# EAGLE library part 43045-0600 (library con-Molex)
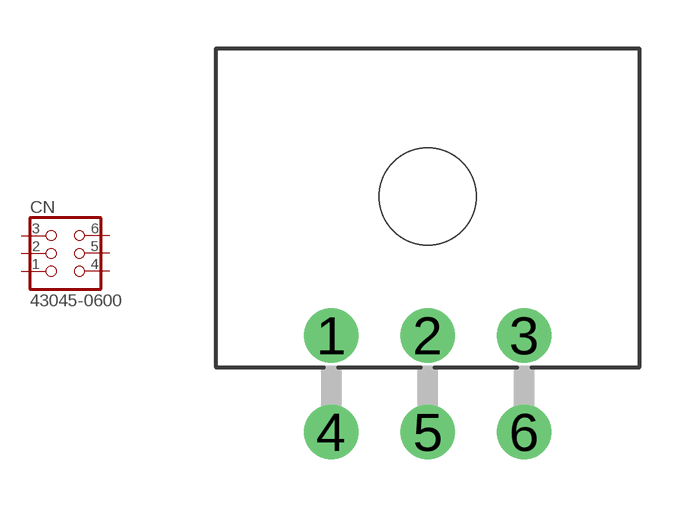
[diagram p12: symbol with the pads of 43045-0600; footprint 43045-0600]

Designator prefix CN

## 43045-0600  [43045-0600]
1  1  pas
2  2  pas
3  3  pas
4  4  pas
5  5  pas
6  6  pas

## Footprint 43045-0600 (pad centres in mm)
drill 1.1 pad 1.7: 1 -3,-4.32; 2 0,-4.32; 3 3,-4.32; 4 -3,-7.32; 5 0,-7.32; 6 3,-7.32
hole 3 at 0,0